# Altium schematic symbol library MIC5205-2P8YM5-TR.SchLib: 2 symbols
Pins are listed as number, name and electrical type; pins without a type are passive.

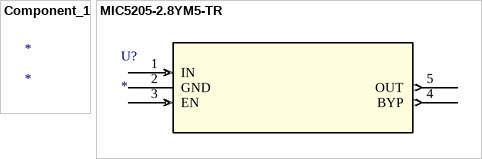
[diagram p0: symbols Component_1 to MIC5205-2.8YM5-TR]

## Component_1
designator *

## MIC5205-2.8YM5-TR
designator U?
No Description Available; Mfr_Name: Microchip; RefDes: RefDes; Type: Type
footprint SOT-23-5_M5_MCH
pins: 1 IN (in), 2 GND (power), 3 EN (in), 4 BYP (out), 5 OUT (out)